# EAGLE library part DS3232M (library DS3232M)
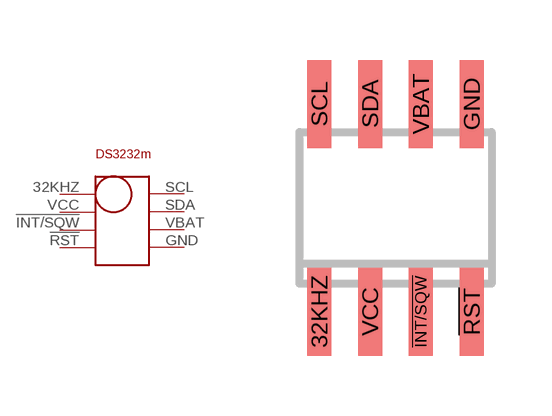
[diagram p0: symbol with the pads of SOIC8; footprint SOIC8]

Designator prefix -

## DS3232M  [SOIC8]
32KHZ  32KHZ  out
!INT/!!SQW  !INT/!!SQW
!RST  !RST
GND  GND  pwr
SCL  SCL
SDA  SDA
VBAT  VBAT  pwr
VCC  VCC  pwr

## Footprint SOIC8 (pad centres in mm)
Small Outline IC
smd 0.6 x 2.2: 32KHZ -1.905,-2.6; !INT/!!SQW 0.635,-2.6; !RST 1.905,-2.6; GND 1.905,2.6; SCL -1.905,2.6; SDA -0.635,2.6; VBAT 0.635,2.6; VCC -0.635,-2.6